# Altium integrated library Renesas Microcontroller H8S.IntLib: 670 symbols (part 20 of 70)
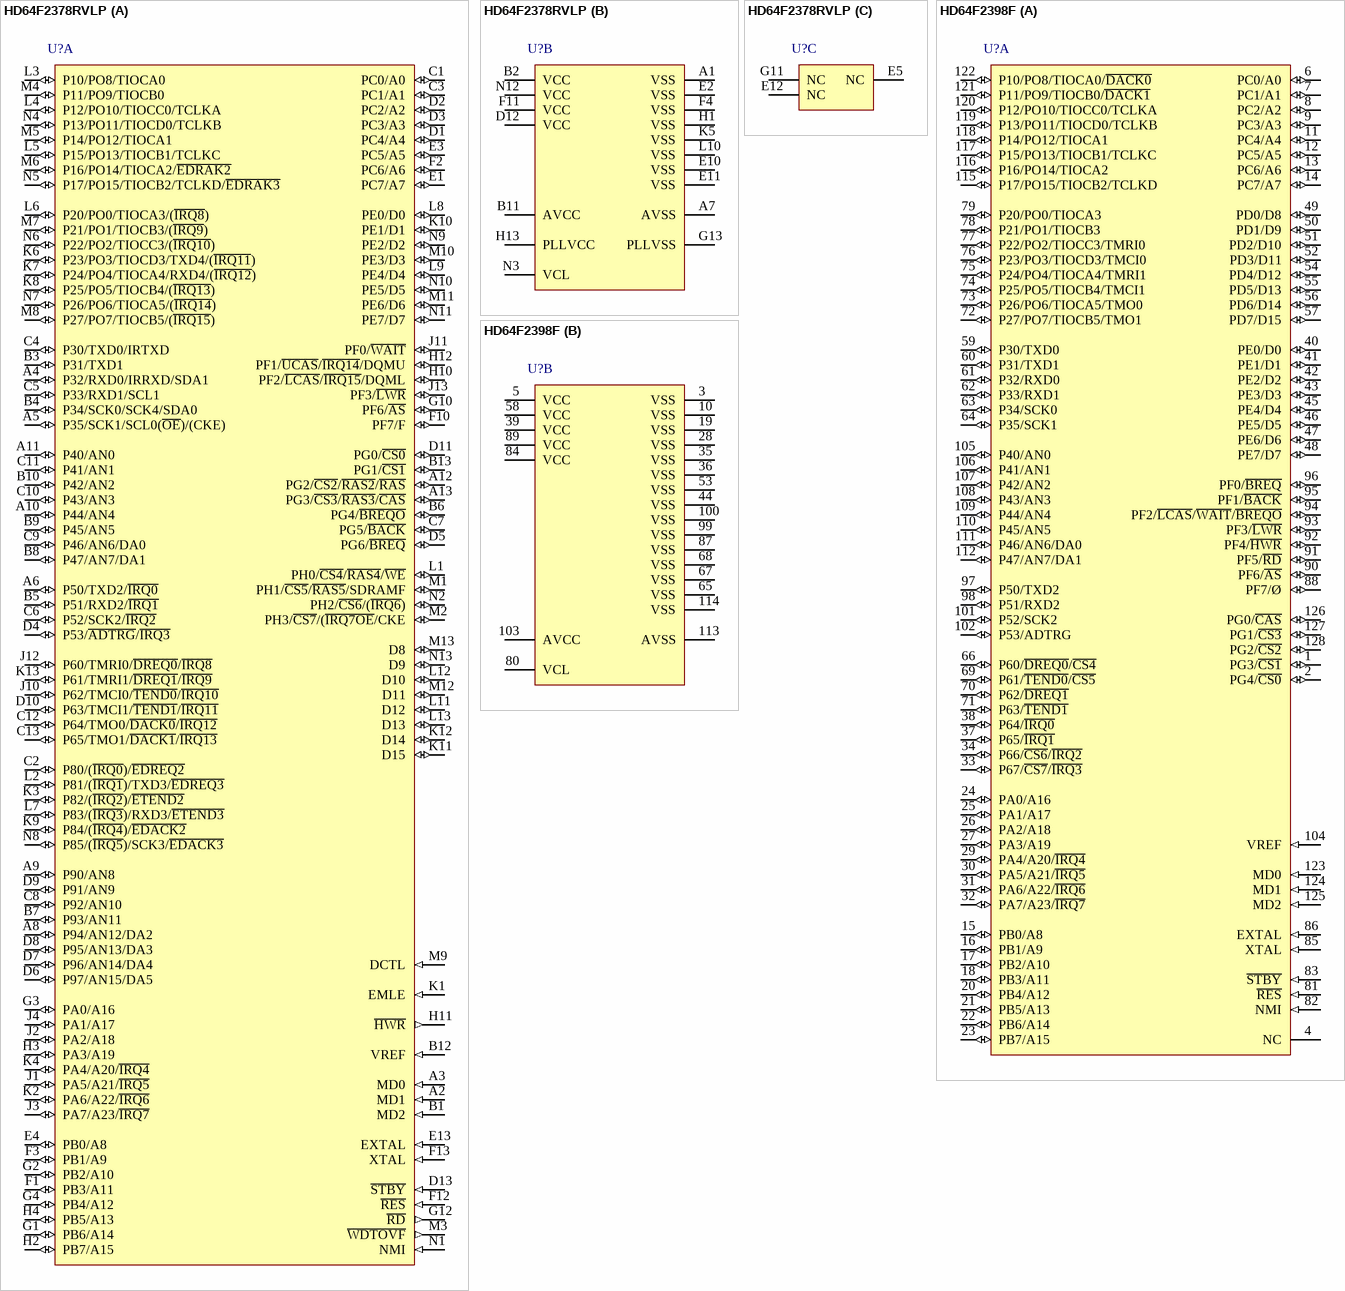
[diagram p354: symbols HD64F2378RVLP to HD64F2398F]

## HD64F2398F
designator U?
Flash memory H8S/2300 Series, 2398 Group MCU, 256K ROM, 8K RAM, FP-128B Pkg; Published: 28-Aug-2009; DatasheetVersion: Rev.6.00, Oct-2004; PackageVersion: Sep-2005; PackageReference: PRQP0128KB-A; Publisher: Altium Limited; PackageDescription: 128-Pin Plastic Quad Flat Pack, 20 x 14 x 2.7 mm Body, 0.5 mm Pitch; Code_JEITA: P-QFP128-14x20-0.50; Code_IPC: SQFP50P1600X2200-128; ComponentLink1Description: Manufacturer Link; ComponentLink1URL: http://sg.renesas.com/fmwk.jsp?cnt=h8s_family_landing.jsp&fp=/products/mpumcu/h8s_family/; ComponentLink2Description: Datasheet; ComponentLink2URL: http://documentation.renesas.com/eng/products/mpumcu/rej09b0138_h8s2357.pdf; ComponentLink3Description: Packaging Specification; ComponentLink3URL: http://sg.renesas.com/media/products/common_info/package/pdf/ic/code/prqp0128kb_a.pdf
footprint PRQP0128KB-A_N (Shrink QFP, 128-Leads, Body 20x14 mm, Pitch 0.5mm, IPC Medium Density)
footprint PRQP0128KB-A_L (Shrink QFP, 128-Leads, Body 20x14 mm, Pitch 0.5mm, IPC High Density)
footprint PRQP0128KB-A_M (Shrink QFP, 128-Leads, Body 20x14 mm, Pitch 0.5mm, IPC Low Density)
part A pins: 1 PG3/~{CS1} (io), 2 PG4/~{CS0} (io), 4 NC, 6 PC0/A0 (io), 7 PC1/A1 (io), 8 PC2/A2 (io), 9 PC3/A3 (io), 11 PC4/A4 (io), 12 PC5/A5 (io), 13 PC6/A6 (io), 14 PC7/A7 (io), 15 PB0/A8 (io), 16 PB1/A9 (io), 17 PB2/A10 (io), 18 PB3/A11 (io), 20 PB4/A12 (io), 21 PB5/A13 (io), 22 PB6/A14 (io), 23 PB7/A15 (io), 24 PA0/A16 (io), 25 PA1/A17 (io), 26 PA2/A18 (io), 27 PA3/A19 (io), 29 PA4/A20/~{IRQ4} (io), 30 PA5/A21/~{IRQ5} (io), 31 PA6/A22/~{IRQ6} (io), 32 PA7/A23/~{IRQ7} (io), 33 P67/~{CS7}/~{IRQ3} (io), 34 P66/~{CS6}/~{IRQ2} (io), 37 P65/~{IRQ1} (io), 38 P64/~{IRQ0} (io), 40 PE0/D0 (io), 41 PE1/D1 (io), 42 PE2/D2 (io), 43 PE3/D3 (io), 45 PE4/D4 (io), 46 PE5/D5 (io), 47 PE6/D6 (io), 48 PE7/D7 (io), 49 PD0/D8 (io), 50 PD1/D9 (io), 51 PD2/D10 (io), 52 PD3/D11 (io), 54 PD4/D12 (io), 55 PD5/D13 (io), 56 PD6/D14 (io), 57 PD7/D15 (io), 59 P30/TXD0 (io), 60 P31/TXD1 (io), 61 P32/RXD0 (io), 62 P33/RXD1 (io), 63 P34/SCK0 (io), 64 P35/SCK1 (io), 66 P60/~{DREQ0}/~{CS4} (io), 69 P61/~{TEND0}/~{CS5} (io), 70 P62/~{DREQ1} (io), 71 P63/~{TEND1} (io), 72 P27/PO7/TIOCB5/TMO1 (io), 73 P26/PO6/TIOCA5/TMO0 (io), 74 P25/PO5/TIOCB4/TMCI1 (io), 75 P24/PO4/TIOCA4/TMRI1 (io), 76 P23/PO3/TIOCD3/TMCI0 (io), 77 P22/PO2/TIOCC3/TMRI0 (io), 78 P21/PO1/TIOCB3 (io), 79 P20/PO0/TIOCA3 (io), 81 ~{RES} (in), 82 NMI (in), 83 ~{STBY} (in), 85 XTAL (in), 86 EXTAL (in), 88 PF7/Ø (io), 90 PF6/~{AS} (io), 91 PF5/~{RD} (io), 92 PF4/~{HWR} (io), 93 PF3/~{LWR} (io), 94 PF2/~{LCAS}/~{WAIT}/~{BREQO} (io), 95 PF1/~{BACK} (io), 96 PF0/~{BREQ} (io), 97 P50/TXD2 (io), 98 P51/RXD2 (io), 101 P52/SCK2 (io), 102 P53/ADTRG (io), 104 VREF (in), 105 P40/AN0 (io), 106 P41/AN1 (io), 107 P42/AN2 (io), 108 P43/AN3 (io), 109 P44/AN4 (io), 110 P45/AN5 (io), 111 P46/AN6/DA0 (io), 112 P47/AN7/DA1 (io), 115 P17/PO15/TIOCB2/TCLKD (io), 116 P16/PO14/TIOCA2 (io), 117 P15/PO13/TIOCB1/TCLKC (io), 118 P14/PO12/TIOCA1 (io), 119 P13/PO11/TIOCD0/TCLKB (io), 120 P12/PO10/TIOCC0/TCLKA (io), 121 P11/PO9/TIOCB0/~{DACK1} (io), 122 P10/PO8/TIOCA0/~{DACK0} (io), 123 MD0 (in), 124 MD1 (in), 125 MD2 (in), 126 PG0/~{CAS} (io), 127 PG1/~{CS3} (io), 128 PG2/~{CS2} (io)
part B pins: 3 VSS (power), 5 VCC (power), 10 VSS (power), 19 VSS (power), 28 VSS (power), 35 VSS (power), 36 VSS (power), 39 VCC (power), 44 VSS (power), 53 VSS (power), 58 VCC (power), 65 VSS (power), 67 VSS (power), 68 VSS (power), 80 VCL, 84 VCC (power), 87 VSS (power), 89 VCC (power), 99 VSS (power), 100 VSS (power), 103 AVCC (power), 113 AVSS (power), 114 VSS (power)

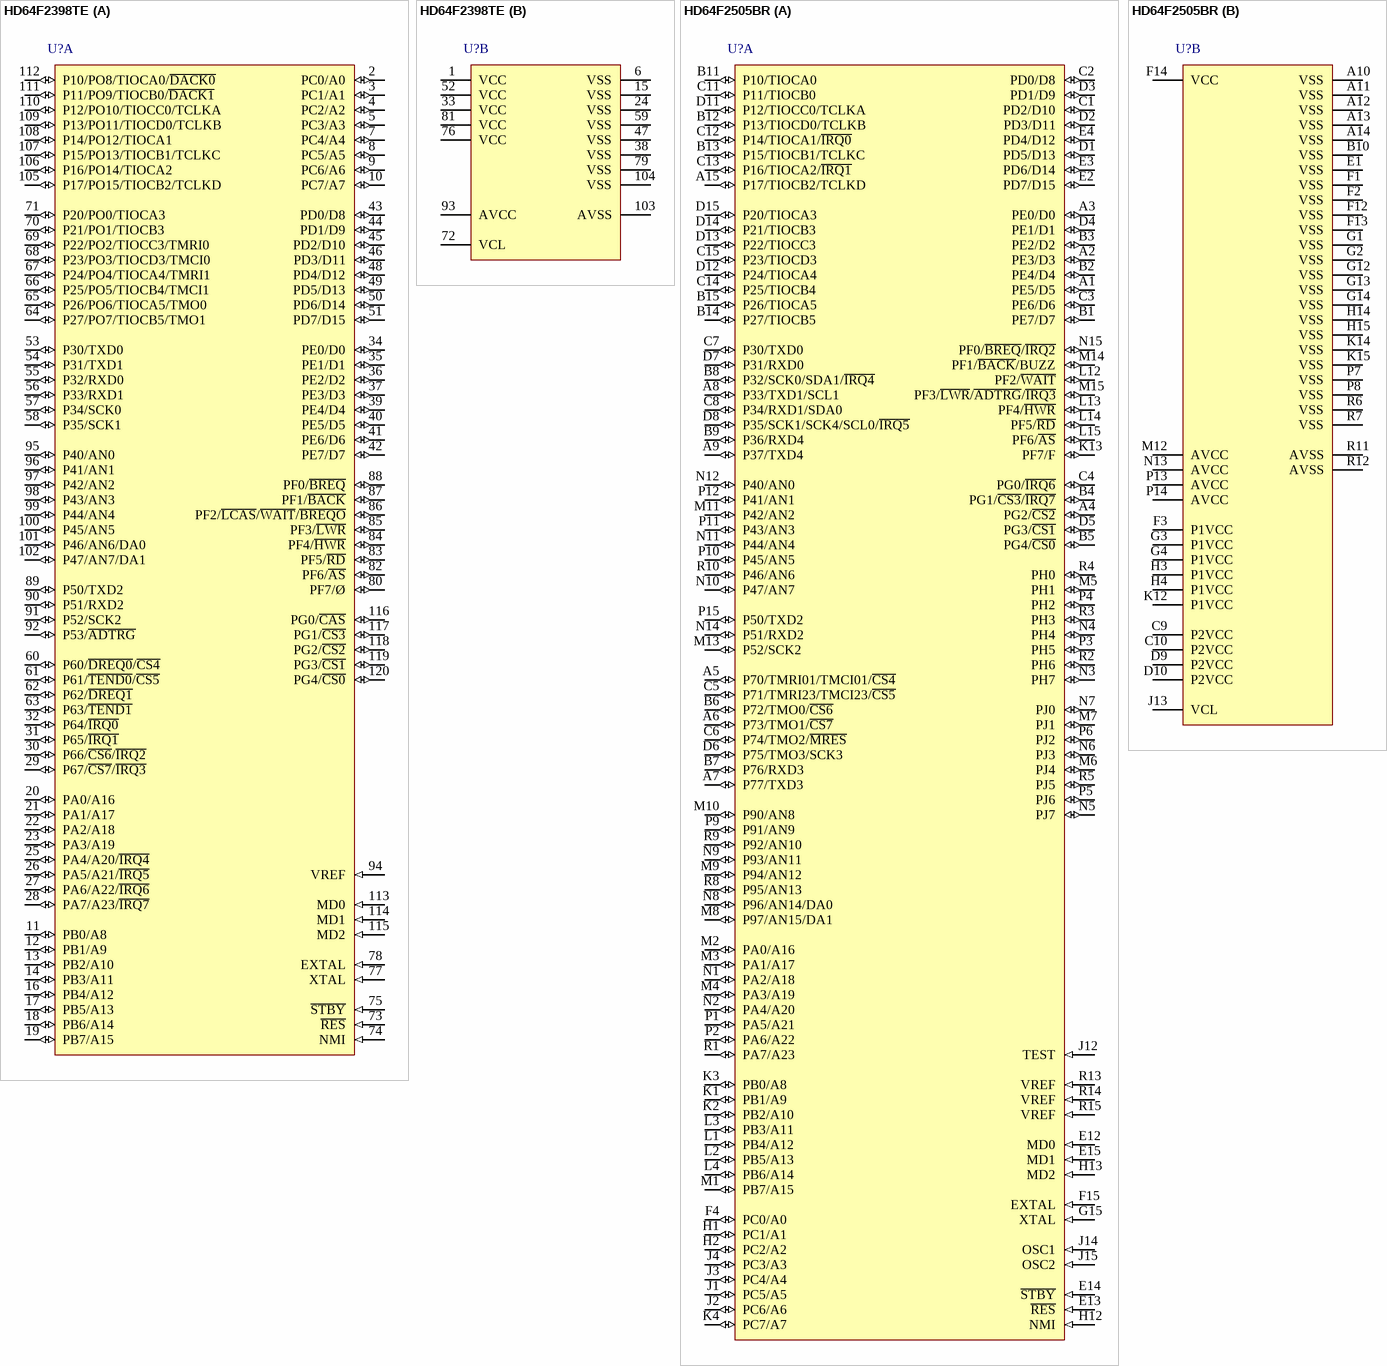
[diagram p70: symbols HD64F2398TE to HD64F2505BR]

## HD64F2398TE
designator U?
Flash memory H8S/2300 Series, 2398 Group MCU, 256K ROM, 8K RAM, TFP-120 Pkg; Published: 28-Aug-2009; DatasheetVersion: Rev.6.00, Oct-2004; PackageVersion: Sep-2005; PackageReference: PTQP0120LA-A; Publisher: Altium Limited; PackageDescription: 120-Pin Plastic Thin QFP, 14 x 14 x 1.0 mm Body, 0.4 mm Pitch; Code_JEITA: P-TQFP120-14x14-0.40; ComponentLink1Description: Manufacturer Link; ComponentLink1URL: http://sg.renesas.com/fmwk.jsp?cnt=h8s_family_landing.jsp&fp=/products/mpumcu/h8s_family/; ComponentLink2Description: Datasheet; ComponentLink2URL: http://documentation.renesas.com/eng/products/mpumcu/rej09b0138_h8s2357.pdf; ComponentLink3Description: Packaging Specification; ComponentLink3URL: http://sg.renesas.com/media/products/common_info/package/pdf/ic/code/ptqp0120la_a.pdf
footprint PTQP0120LA-A_N (Thin QFP, 120-Leads, Body 14x14mm, Pitch 0.4mm, IPC Medium Density)
footprint PTQP0120LA-A_L (Thin QFP, 120-Leads, Body 14x14mm, Pitch 0.4mm, IPC High Density)
footprint PTQP0120LA-A_M (Thin QFP, 120-Leads, Body 14x14mm, Pitch 0.4mm, IPC Low Density)
part A pins: 2 PC0/A0 (io), 3 PC1/A1 (io), 4 PC2/A2 (io), 5 PC3/A3 (io), 7 PC4/A4 (io), 8 PC5/A5 (io), 9 PC6/A6 (io), 10 PC7/A7 (io), 11 PB0/A8 (io), 12 PB1/A9 (io), 13 PB2/A10 (io), 14 PB3/A11 (io), 16 PB4/A12 (io), 17 PB5/A13 (io), 18 PB6/A14 (io), 19 PB7/A15 (io), 20 PA0/A16 (io), 21 PA1/A17 (io), 22 PA2/A18 (io), 23 PA3/A19 (io), 25 PA4/A20/~{IRQ4} (io), 26 PA5/A21/~{IRQ5} (io), 27 PA6/A22/~{IRQ6} (io), 28 PA7/A23/~{IRQ7} (io), 29 P67/~{CS7}/~{IRQ3} (io), 30 P66/~{CS6}/~{IRQ2} (io), 31 P65/~{IRQ1} (io), 32 P64/~{IRQ0} (io), 34 PE0/D0 (io), 35 PE1/D1 (io), 36 PE2/D2 (io), 37 PE3/D3 (io), 39 PE4/D4 (io), 40 PE5/D5 (io), 41 PE6/D6 (io), 42 PE7/D7 (io), 43 PD0/D8 (io), 44 PD1/D9 (io), 45 PD2/D10 (io), 46 PD3/D11 (io), 48 PD4/D12 (io), 49 PD5/D13 (io), 50 PD6/D14 (io), 51 PD7/D15 (io), 53 P30/TXD0 (io), 54 P31/TXD1 (io), 55 P32/RXD0 (io), 56 P33/RXD1 (io), 57 P34/SCK0 (io), 58 P35/SCK1 (io), 60 P60/~{DREQ0}/~{CS4} (io), 61 P61/~{TEND0}/~{CS5} (io), 62 P62/~{DREQ1} (io), 63 P63/~{TEND1} (io), 64 P27/PO7/TIOCB5/TMO1 (io), 65 P26/PO6/TIOCA5/TMO0 (io), 66 P25/PO5/TIOCB4/TMCI1 (io), 67 P24/PO4/TIOCA4/TMRI1 (io), 68 P23/PO3/TIOCD3/TMCI0 (io), 69 P22/PO2/TIOCC3/TMRI0 (io), 70 P21/PO1/TIOCB3 (io), 71 P20/PO0/TIOCA3 (io), 73 ~{RES} (in), 74 NMI (in), 75 ~{STBY} (in), 77 XTAL (in), 78 EXTAL (in), 80 PF7/Ø (io), 82 PF6/~{AS} (io), 83 PF5/~{RD} (io), 84 PF4/~{HWR} (io), 85 PF3/~{LWR} (io), 86 PF2/~{LCAS}/~{WAIT}/~{BREQO} (io), 87 PF1/~{BACK} (io), 88 PF0/~{BREQ} (io), 89 P50/TXD2 (io), 90 P51/RXD2 (io), 91 P52/SCK2 (io), 92 P53/~{ADTRG} (io), 94 VREF (in), 95 P40/AN0 (io), 96 P41/AN1 (io), 97 P42/AN2 (io), 98 P43/AN3 (io), 99 P44/AN4 (io), 100 P45/AN5 (io), 101 P46/AN6/DA0 (io), 102 P47/AN7/DA1 (io), 105 P17/PO15/TIOCB2/TCLKD (io), 106 P16/PO14/TIOCA2 (io), 107 P15/PO13/TIOCB1/TCLKC (io), 108 P14/PO12/TIOCA1 (io), 109 P13/PO11/TIOCD0/TCLKB (io), 110 P12/PO10/TIOCC0/TCLKA (io), 111 P11/PO9/TIOCB0/~{DACK1} (io), 112 P10/PO8/TIOCA0/~{DACK0} (io), 113 MD0 (in), 114 MD1 (in), 115 MD2 (in), 116 PG0/~{CAS} (io), 117 PG1/~{CS3} (io), 118 PG2/~{CS2} (io), 119 PG3/~{CS1} (io), 120 PG4/~{CS0} (io)
part B pins: 1 VCC (power), 6 VSS (power), 15 VSS (power), 24 VSS (power), 33 VCC (power), 38 VSS (power), 47 VSS (power), 52 VCC (power), 59 VSS (power), 72 VCL, 76 VCC (power), 79 VSS (power), 81 VCC (power), 93 AVCC (power), 103 AVSS (power), 104 VSS (power)

## HD64F2505BR
designator U?
Flash memory H8S/2500 Series, 2506 Group MCU, 384K ROM, 32K RAM, BP-176V Pkg; Published: 28-Aug-2009; DatasheetVersion: Rev.6.00, Sep-2009; PackageVersion: Apr-2006; PackageReference: PLBG0176GA-A; Publisher: Altium Limited; PackageDescription: 176-Ball Plastic Low Profile Fine-Pitch BGA, 13 x 13 mm Body, 0.8 mm Pitch; Code_JEITA: P-LFBGA176-13x13-0.80; ComponentLink1Description: Manufacturer Link; ComponentLink1URL: http://sg.renesas.com/fmwk.jsp?cnt=h8s_family_landing.jsp&fp=/products/mpumcu/h8s_family/; ComponentLink2Description: Datasheet; ComponentLink2URL: http://documentation.renesas.com/eng/products/mpumcu/rej09b0099_h8s2556.pdf; ComponentLink3Description: Packaging Specification; ComponentLink3URL: http://sg.renesas.com/media/products/common_info/package/pdf/ic/code/plbg0176ga_a.pdf
footprint PLBG0176GA-A (BGA, 176-Leads, Body 13x13mm, Pitch 0.8mm)
part A pins: A1 PE5/D5 (io), A2 PE3/D3 (io), A3 PE0/D0 (io), A4 PG2/~{CS2} (io), A5 P70/TMRI01/TMCI01/~{CS4} (io), A6 P73/TMO1/~{CS7} (io), A7 P77/TXD3 (io), A8 P33/TXD1/SCL1 (io), A9 P37/TXD4 (io), A15 P17/TIOCB2/TCLKD (io), B1 PE7/D7 (io), B2 PE4/D4 (io), B3 PE2/D2 (io), B4 PG1/~{CS3}/~{IRQ7} (io), B5 PG4/~{CS0} (io), B6 P72/TMO0/~{CS6} (io), B7 P76/RXD3 (io), B8 P32/SCK0/SDA1/~{IRQ4} (io), B9 P36/RXD4 (io), B11 P10/TIOCA0 (io), B12 P13/TIOCD0/TCLKB (io), B13 P15/TIOCB1/TCLKC (io), B14 P27/TIOCB5 (io), B15 P26/TIOCA5 (io), C1 PD2/D10 (io), C2 PD0/D8 (io), C3 PE6/D6 (io), C4 PG0/~{IRQ6} (io), C5 P71/TMRI23/TMCI23/~{CS5} (io), C6 P74/TMO2/~{MRES} (io), C7 P30/TXD0 (io), C8 P34/RXD1/SDA0 (io), C11 P11/TIOCB0 (io), C12 P14/TIOCA1/~{IRQ0} (io), C13 P16/TIOCA2/~{IRQ1} (io), C14 P25/TIOCB4 (io), C15 P23/TIOCD3 (io), D1 PD5/D13 (io), D2 PD3/D11 (io), D3 PD1/D9 (io), D4 PE1/D1 (io), D5 PG3/~{CS1} (io), D6 P75/TMO3/SCK3 (io), D7 P31/RXD0 (io), D8 P35/SCK1/SCK4/SCL0/~{IRQ5} (io), D11 P12/TIOCC0/TCLKA (io), D12 P24/TIOCA4 (io), D13 P22/TIOCC3 (io), D14 P21/TIOCB3 (io), D15 P20/TIOCA3 (io), E2 PD7/D15 (io), E3 PD6/D14 (io), E4 PD4/D12 (io), E12 MD0 (in), E13 ~{RES} (in), E14 ~{STBY} (in), E15 MD1 (in), F4 PC0/A0 (io), F15 EXTAL (in), G15 XTAL (in), H1 PC1/A1 (io), H2 PC2/A2 (io), H12 NMI (in), H13 MD2 (in), J1 PC5/A5 (io), J2 PC6/A6 (io), J3 PC4/A4 (io), J4 PC3/A3 (io), J12 TEST (in), J14 OSC1 (in), J15 OSC2 (in), K1 PB1/A9 (io), K2 PB2/A10 (io), K3 PB0/A8 (io), K4 PC7/A7 (io), K13 PF7/F (io), L1 PB4/A12 (io), L2 PB5/A13 (io), L3 PB3/A11 (io), L4 PB6/A14 (io), L12 PF2/~{WAIT} (io), L13 PF4/~{HWR} (io), L14 PF5/~{RD} (io), L15 PF6/~{AS} (io), M1 PB7/A15 (io), M2 PA0/A16 (io), M3 PA1/A17 (io), M4 PA3/A19 (io), M5 PH1 (io), M6 PJ4 (io), M7 PJ1 (io), M8 P97/AN15/DA1 (io), M9 P94/AN12 (io), M10 P90/AN8 (io), M11 P42/AN2 (io), M13 P52/SCK2 (io), M14 PF1/~{BACK}/BUZZ (io), M15 PF3/~{LWR}/~{ADTRG}/~{IRQ3} (io), N1 PA2/A18 (io), N2 PA4/A20 (io), N3 PH7 (io), N4 PH4 (io), N5 PJ7 (io), N6 PJ3 (io), N7 PJ0 (io), N8 P96/AN14/DA0 (io), N9 P93/AN11 (io), N10 P47/AN7 (io), N11 P44/AN4 (io), N12 P40/AN0 (io), N14 P51/RXD2 (io), N15 PF0/~{BREQ}/~{IRQ2} (io), P1 PA5/A21 (io), P2 PA6/A22 (io), P3 PH5 (io), P4 PH2 (io), P5 PJ6 (io), P6 PJ2 (io), P9 P91/AN9 (io), P10 P45/AN5 (io), P11 P43/AN3 (io), P12 P41/AN1 (io), P15 P50/TXD2 (io), R1 PA7/A23 (io), R2 PH6 (io), R3 PH3 (io), R4 PH0 (io), R5 PJ5 (io), R8 P95/AN13 (io), R9 P92/AN10 (io), R10 P46/AN6 (io), R13 VREF (in), R14 VREF (in), R15 VREF (in)
part B pins: A10 VSS (power), A11 VSS (power), A12 VSS (power), A13 VSS (power), A14 VSS (power), B10 VSS (power), C9 P2VCC (power), C10 P2VCC (power), D9 P2VCC (power), D10 P2VCC (power), E1 VSS (power), F1 VSS (power), F2 VSS (power), F3 P1VCC (power), F12 VSS (power), F13 VSS (power), F14 VCC (power), G1 VSS (power), G2 VSS (power), G3 P1VCC (power), G4 P1VCC (power), G12 VSS (power), G13 VSS (power), G14 VSS (power), H3 P1VCC (power), H4 P1VCC (power), H14 VSS (power), H15 VSS (power), J13 VCL, K12 P1VCC (power), K14 VSS (power), K15 VSS (power), M12 AVCC (power), N13 AVCC (power), P7 VSS (power), P8 VSS (power), P13 AVCC (power), P14 AVCC (power), R6 VSS (power), R7 VSS (power), R11 AVSS (power), R12 AVSS (power)

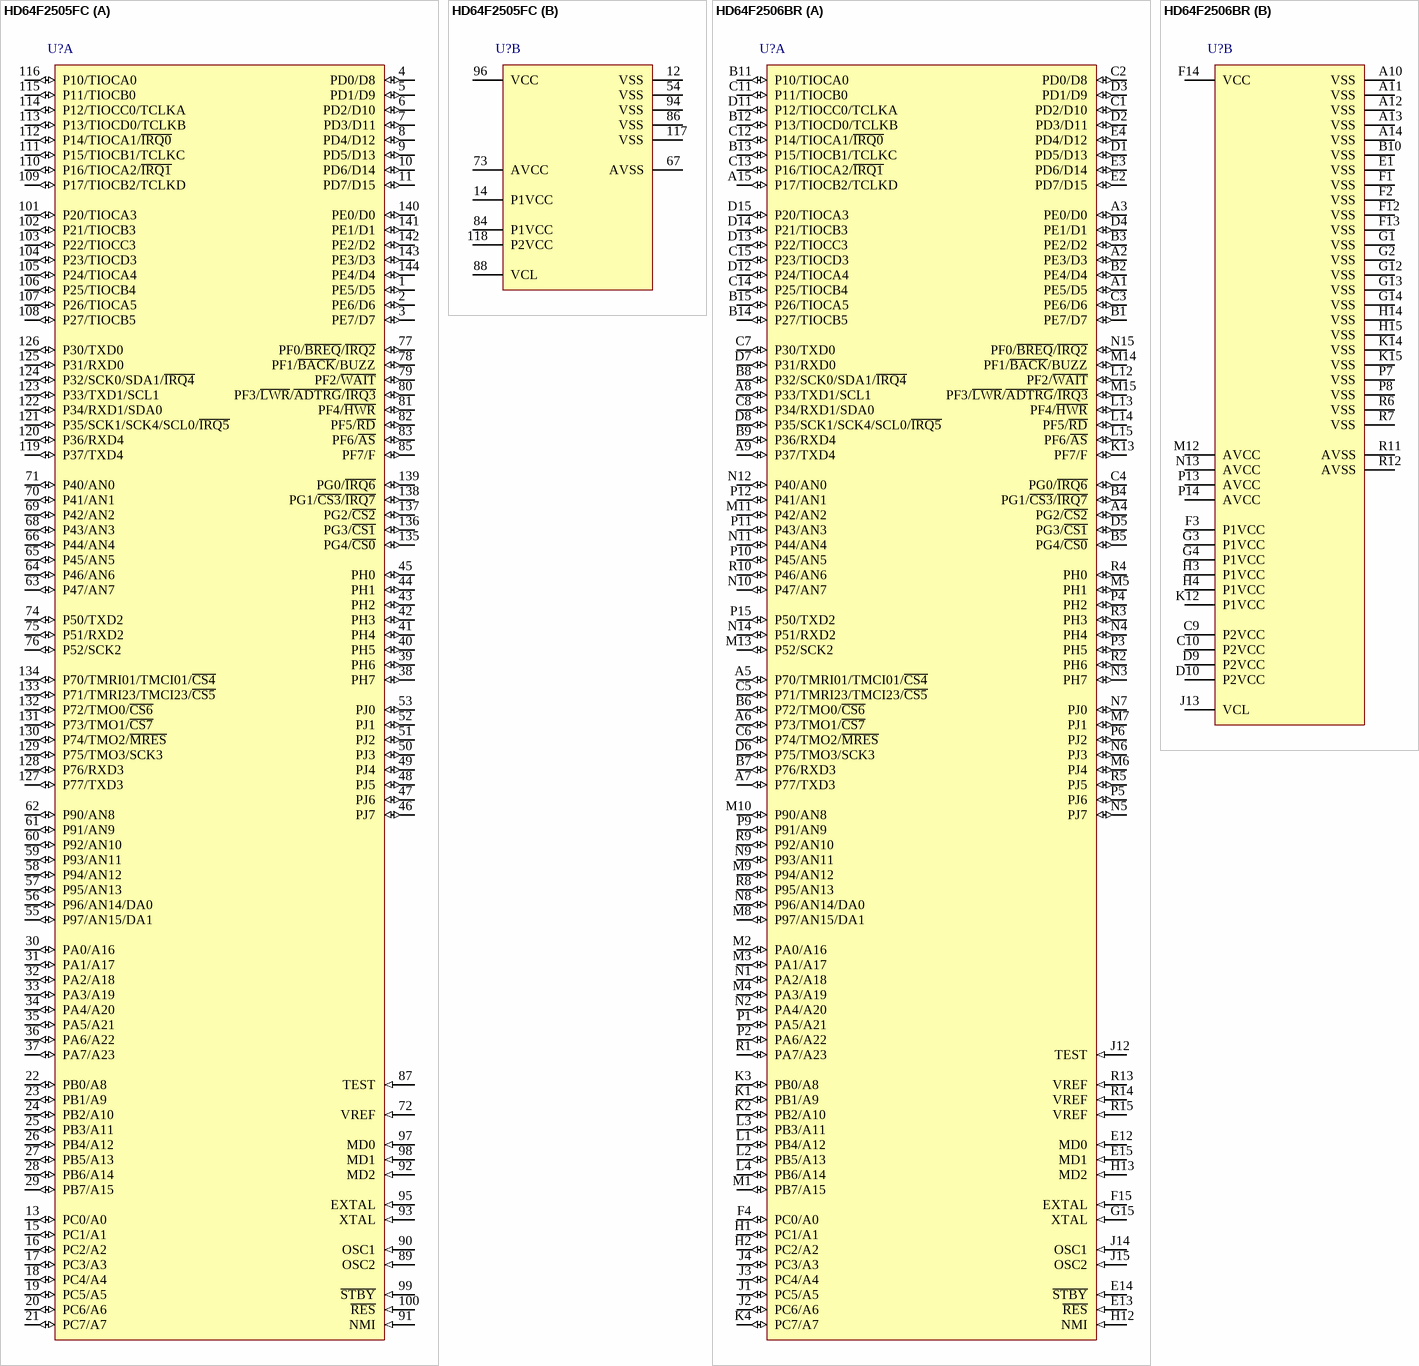
[diagram p71: symbols HD64F2505FC to HD64F2506BR]